# EAGLE library part 750344488 (library Wurth_Power Magnetics_WE-POE)
WE-PoE Power over Ethernet Transformer Characteristics Flyback transformer designed for PoE PDs Input voltage: 36 V to 57 V Switching frequencies: 200–500 kHz Operating temperature: –40 ºC to +125 ºC Isolation voltage: 1.5 kVAC/1 min Different output powers and voltages available Applications PoE powered devices IP Phones WLAN Access Points Access control terminals Security cameras <https://www.we-online.com/components/media/o766301v209%20Family-POE.jpg> Details see: www.we-online.com/en/components/products/WE-POE <www.we-online.com/catalog/WE-POE/?utm_source=eagle_model&utm_medium=description_link&utm_campaign=eisos_eagle> Updated by Ella 2024-01-09 2024 (C) Wurth Elektronik
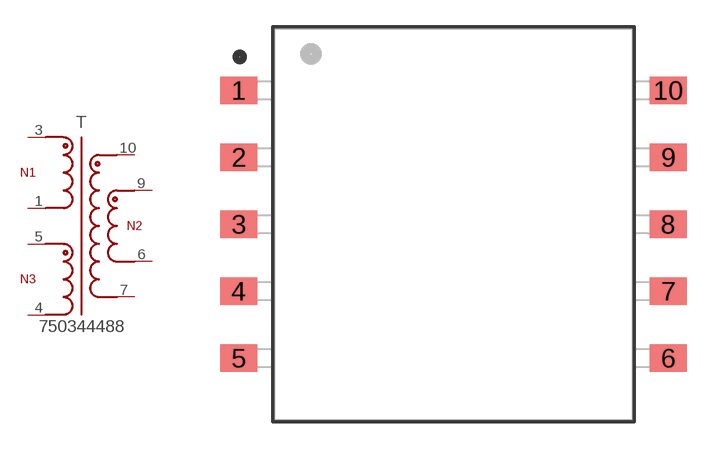
[diagram p37: symbol with the pads of WE-POE_EFD20_750344488; footprint WE-POE_EFD20_750344488]

Designator prefix T

## 750344488 (DATASHEET-URL: https://www.we-online.com/redexpert/spec/750344488?ae; IO1: 2A; L: 14uH; MOUNT: SMT; N: 1.33:1:1; PART-NUMBER: 750344488; SIZE: EFD20; VALUE: 750344488; VERSION: CCM Flyback; VIN: 9 - 60 V (DC); VO1: 12V; VT: 1500V(AC))  [WE-POE_EFD20_750344488]
1  1  pas
3  3  pas
4  4  pas
5  5  pas
6  6  pas
7  7  pas
9  9  pas
10  10  pas

## Footprint WE-POE_EFD20_750344488 (pad centres in mm)
WE-PoE Power over Ethernet Transformer EFD20, SMT, 10Pins
smd 2.08 x 1.55: 1 -12.05,7.52; 2 -12.05,3.76; 3 -12.05,0; 4 -12.05,-3.76; 5 -12.05,-7.52; 6 12.05,-7.52; 7 12.05,-3.76; 8 12.05,0; 9 12.05,3.76; 10 12.05,7.52